# Altium schematic symbol library esd_project.SchLib: 4 symbols
Pins are listed as number, name and electrical type; pins without a type are passive.

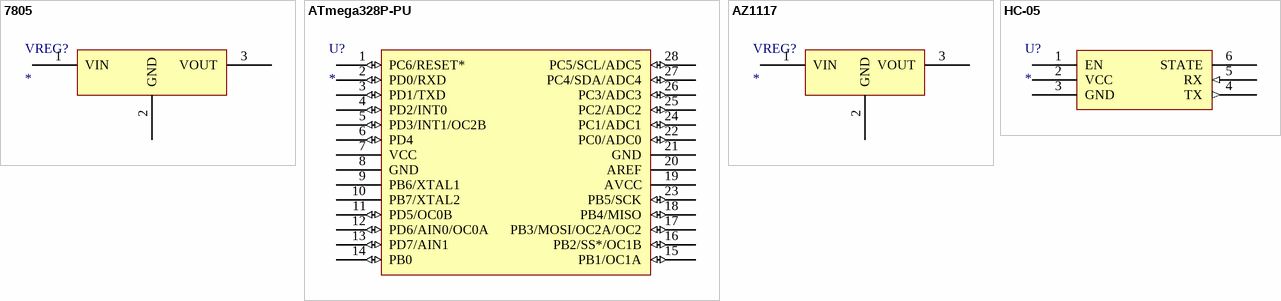
[diagram p0: symbols 7805 to HC-05]

## 7805
designator VREG?
footprint TO-220
pins: 1 VIN (power), 2 GND, 3 VOUT (power)

## ATmega328P-PU
designator U?
footprint PDIP-28
pins: 1 PC6/RESET* (io), 2 PD0/RXD (io), 3 PD1/TXD (io), 4 PD2/INT0 (io), 5 PD3/INT1/OC2B (io), 6 PD4 (io), 7 VCC (power), 8 GND (power), 9 PB6/XTAL1, 10 PB7/XTAL2, 11 PD5/OC0B (io), 12 PD6/AIN0/OC0A (io), 13 PD7/AIN1 (io), 14 PB0 (io), 15 PB1/OC1A (io), 16 PB2/SS*/OC1B (io), 17 PB3/MOSI/OC2A/OC2 (io), 18 PB4/MISO (io), 19 AVCC (power), 20 AREF (power), 21 GND (power), 22 PC0/ADC0 (io), 23 PB5/SCK (io), 24 PC1/ADC1 (io), 25 PC2/ADC2 (io), 26 PC3/ADC3 (io), 27 PC4/SDA/ADC4 (io), 28 PC5/SCL/ADC5 (io)

## AZ1117
designator VREG?
footprint SOT-223
pins: 1 VIN (power), 2 GND (power), 3 VOUT (power)

## HC-05
designator U?
pins: 1 EN (power), 2 VCC (power), 3 GND (power), 4 TX (out), 5 RX (in), 6 STATE